# EAGLE library part 62501421721 (library Wire-to-Board (rev18a))
WR-BHD 2.00mm Male Angled Box Header, 14 Pins=>Code : Con_WTB_BHD_2.00_Male_THT_62501421721 <http://katalog.we-online.de/media/thumbs2/eican/thb_Con_WTB_BHD_2.00_Male_THT_6250xx21721_pf2.jpg> Details see: http://katalog.we-online.de/en/em/625_0xx_217_21 Created 2014-06-05, Karrer Zheng 2014 (C) Würth Elektronik
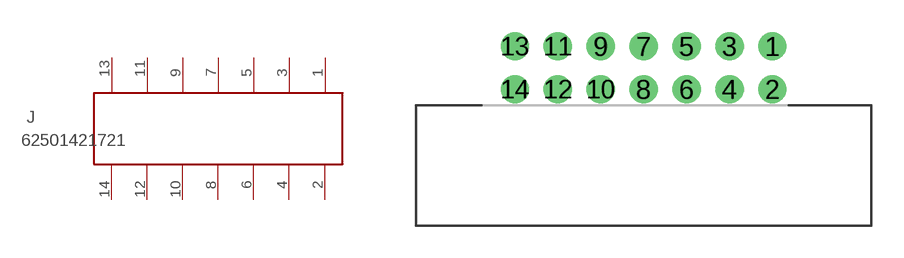
[diagram p217: symbol with the pads of 62501421721; footprint 62501421721]

Designator prefix J

## 62501421721  [62501421721]
1  1  pas
2  2  pas
3  3  pas
4  4  pas
5  5  pas
6  6  pas
7  7  pas
8  8  pas
9  9  pas
10  10  pas
11  11  pas
12  12  pas
13  13  pas
14  14  pas

## Footprint 62501421721 (pad centres in mm)
WR-BHD 2.00mm Male Angled Box Header, 14 pins
drill 0.8: 1 6,2; 2 6,0; 3 4,2; 4 4,0; 5 2,2; 6 2,0; 7 0,2; 8 0,0; 9 -2,2; 10 -2,0; 11 -4,2; 12 -4,0; 13 -6,2; 14 -6,0